# Altium schematic symbol library AC-DC.SchLib: 1 symbol
Pins are listed as number, name and electrical type; pins without a type are passive.

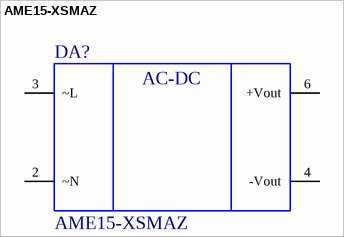
[diagram p0: symbol AME15-XSMAZ]

## AME15-XSMAZ
designator DA?
AC-DC Converter; ValueSch: AME15-XSMAZ
pins: 2 ~N (power), 3 ~L (power), 4 -Vout (power), 6 +Vout (power)
text: AC-DC